# Altium schematic symbol library BRIDGE.Schlib: 1 symbol
Pins are listed as number, name and electrical type; pins without a type are passive.

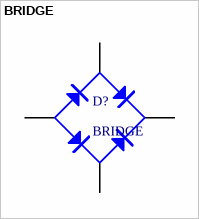
[diagram p0: symbol BRIDGE]

## BRIDGE
designator D?
pins: 1 V+, 2 AC, 3 AC, 4 V-